# Altium footprint library PcbLib1.PcbLib: 6 footprints
Each footprint in its own frame and in the unit in brackets; x right, y up, seen from the top. Pads: shape width x height; smd on the part's side, far side on the other; paste and mask are expansions set on the pad; w line width, h text height; cw(c..) or ccw(c..) is an arc to the next point about the centre after c.
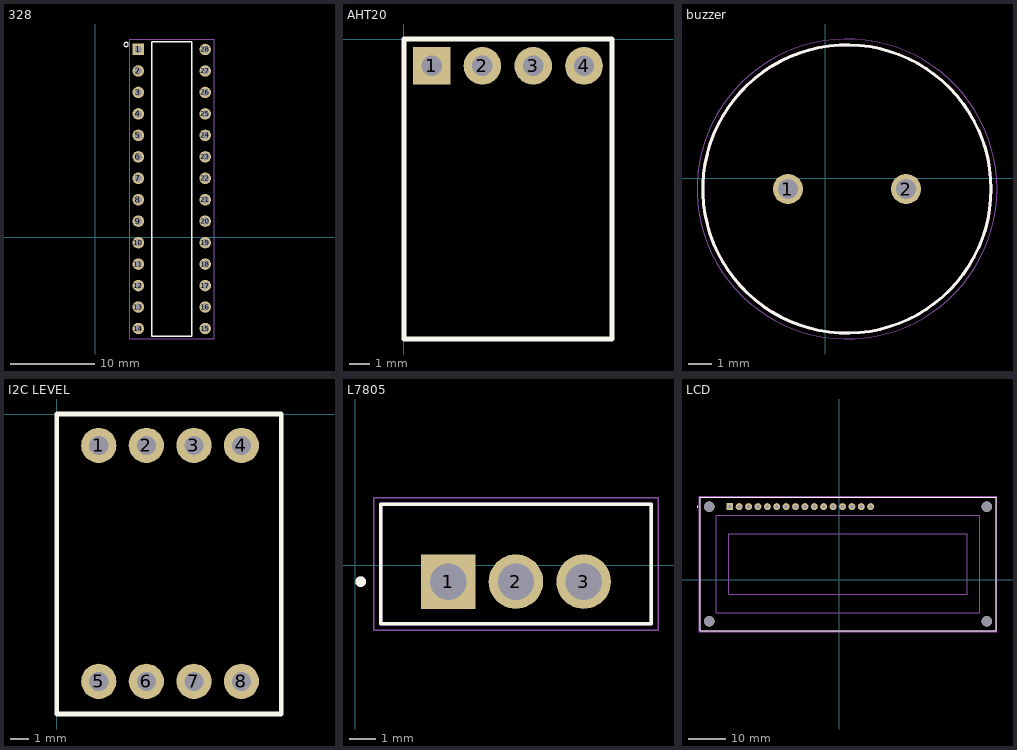
[diagram p0: the footprints below, top view; thin cyan lines are the x and y axes]

## 328 [mm]
pads (28):
  rect 1.358x1.358 hole 0.85: 1(5.103,22.216)
  round 1.358 hole 0.85: 2(5.103,19.676) 3(5.103,17.136) 4(5.103,14.596) 5(5.103,12.056) 6(5.103,9.516) 7(5.103,6.976) 8(5.103,4.436) 9(5.103,1.896) 10(5.103,-0.644) 11(5.103,-3.184) 12(5.103,-5.724) 13(5.103,-8.264) 14(5.103,-10.804) 15(13.023,-10.804) 16(13.023,-8.264) 17(13.023,-5.724) 18(13.023,-3.184) 19(13.023,-0.644) 20(13.023,1.896) 21(13.023,4.436) 22(13.023,6.976) 23(13.023,9.516) 24(13.023,12.056) 25(13.023,14.596) 26(13.023,17.136) 27(13.023,19.676) 28(13.023,22.216)
Top Overlay:
  circle w0: c3.663,22.806 r0.254
  lines w0.152: 6.683,-11.694 6.683,23.106 11.443,23.106 11.443,-11.694 6.683,-11.694
Mechanical 15:
  lines w0.05: 4.063,-12.044 14.063,-12.044 14.063,23.456 4.063,23.456 4.063,-12.044
3D body "ATMEGA328P-PU--3DModel-STEP-56544.STEP": height 4.57, standoff -3.43, extent 5.101,-11.574 13.001,23.097

## AHT20 [mil]
pads (4):
  rect 74x74 / inner round 74 / far side rect 74x74 hole 40: 1(54.47,-52.9)
  round 74 hole 40: 2(154.47,-52.9) 3(254.47,-52.9) 4(354.47,-52.9)
Top Overlay:
  lines w10: 409.6,0 409.45,0 ; 409.45,0 0,0 0,-590.55 409.71,-590.55 409.54,-590.55 409.54,0 409.45,0

## buzzer [mm]
pads (2):
  round 1.28 hole 0.85: 1(-1.58,-0.461) 2(3.42,-0.461)
Top Overlay:
  circle w0.127: c0.92,-0.461 r6.1
Mechanical 13:
  circle w0.127: c0.92,-0.461 r6.1
Mechanical 15:
  circle w0.05: c0.92,-0.461 r6.35
3D body "PS1240P02BT--3DModel-STEP-56544.STEP": height 6, standoff -15, extent -5.198,-6.568 7.002,5.632

## I2C LEVEL [mil]
pads (8):
  round 74 hole 40: 1(88.43,-65.92) 2(188.43,-65.92) 3(288.43,-65.92) 4(388.15,-65.92) 5(88.43,-561.45) 6(188.43,-561.45) 7(288.43,-561.45) 8(388.15,-561.45)
Top Overlay:
  lines w10: 471.91,-630.14 0,-630.14 0,0 471.95,0 471.95,-629.92
3D body "i2C Level-Shifter v3.step": height 149.04, standoff -255.91, extent 19.71,-627.58 452.78,2.34

## L7805 [mm]
pads (3):
  rect 2.055x2.055 / inner round 2.055 / far side rect 2.055x2.055 hole 1.37: 1(3.511,-0.623)
  round 2.055 hole 1.37: 2(6.061,-0.623) 3(8.611,-0.623)
Top Overlay:
  circle w0.2: c0.211,-0.623 r0.1
  lines w0.127: 0.961,-2.21 11.161,-2.21 11.161,2.29 0.961,2.29 0.961,-2.21
Mechanical 13:
  circle w0.2: c0.211,-0.623 r0.1
  lines w0.127: 0.961,-2.21 11.161,-2.21 11.161,2.29 0.961,2.29 0.961,-2.21
Mechanical 15:
  lines w0.05: 0.711,-2.46 11.411,-2.46 11.411,2.54 0.711,2.54 0.711,-2.46
3D body "step_temp.STEP": height 20, standoff -10.6, extent 0.961,-2.21 11.161,2.29

## LCD [mil]
pads (20):
  rect 74x74 / inner round 74 / far side rect 74x74 hole 40: 1(-1165.76,775.85)
  round 74 hole 40: 2(-1065.76,775.85) 3(-965.76,775.85) 4(-865.76,775.85) 5(-765.76,775.85) 6(-665.76,775.85) 7(-565.76,775.85) 8(-465.76,775.85) 9(-365.76,775.85) 10(-265.76,775.85) 11(-165.76,775.85) 12(-65.76,775.85) 13(34.24,775.85) 14(134.24,775.85) 15(234.24,775.85) 16(334.24,775.85)
  round 110.24 hole 110.24 unplated: ""(-1382.29,-444.62) ""(-1382.29,775.85) ""(1570.46,-444.62) ""(1570.46,775.85)
Top Overlay:
  circle w7.87: c-1510.25,775.85 r3.94
  lines w5: -1480.72,-543.05 1668.89,-543.05 1668.89,874.27 -1480.72,874.27 -1480.72,-543.05
Mechanical 13:
  circle w7.87: c-1510.25,775.85 r3.94
  lines w5: -1480.72,-543.05 1668.89,-543.05 1668.89,874.27 -1480.72,874.27 -1480.72,-543.05 ; -1309.46,-352.1 1497.63,-352.1 1497.63,683.33 -1309.46,683.33 -1309.46,-352.1 ; -1175.6,-157.22 1363.77,-157.22 1363.77,488.45 -1175.6,488.45 -1175.6,-157.22
Mechanical 15:
  lines w1.97: -1490.56,-552.89 -1490.56,884.12 1678.73,884.12 1678.73,-552.89 -1490.56,-552.89
3D body "step_temp.STEP": height 401.57, standoff -118.11, extent -1480.72,-543.05 1668.89,874.27